# EAGLE library part DFPLAYER_MINI (library DFPlayer_Mini)
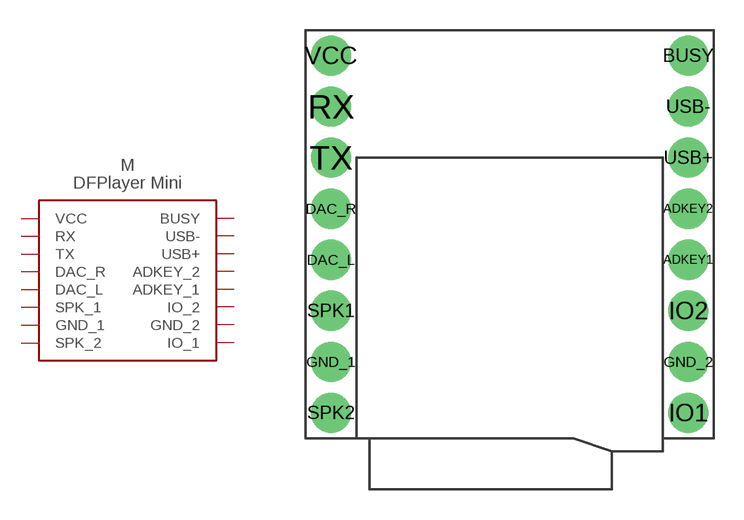
[diagram p0: symbol with the pads of DFPLAYER_MINI; footprint DFPLAYER_MINI]

Designator prefix M

## DFPLAYER_MINI  [DFPLAYER_MINI]
ADKEY1  ADKEY_1
ADKEY2  ADKEY_2
BUSY  BUSY
DAC_L  DAC_L
DAC_R  DAC_R
GND_1  GND_1
GND_2  GND_2
IO1  IO_1
IO2  IO_2
RX  RX
SPK1  SPK_1
SPK2  SPK_2
TX  TX
USB+  USB+
USB-  USB-
VCC  VCC

## Footprint DFPLAYER_MINI (pad centres in mm)
drill 1 pad 2: ADKEY1 8.89,0; ADKEY2 8.89,2.54; BUSY 8.89,10.16; DAC_L -8.89,0; DAC_R -8.89,2.54; GND_1 -8.89,-5.08; GND_2 8.89,-5.08; IO1 8.89,-7.62; IO2 8.89,-2.54; RX -8.89,7.62; SPK1 -8.89,-2.54; SPK2 -8.89,-7.62; TX -8.89,5.08; USB+ 8.89,5.08; USB- 8.89,7.62; VCC -8.89,10.16